# Altium schematic symbol library AstroPix.SchLib: 5 symbols
Pins are listed as number, name and electrical type; pins without a type are passive.

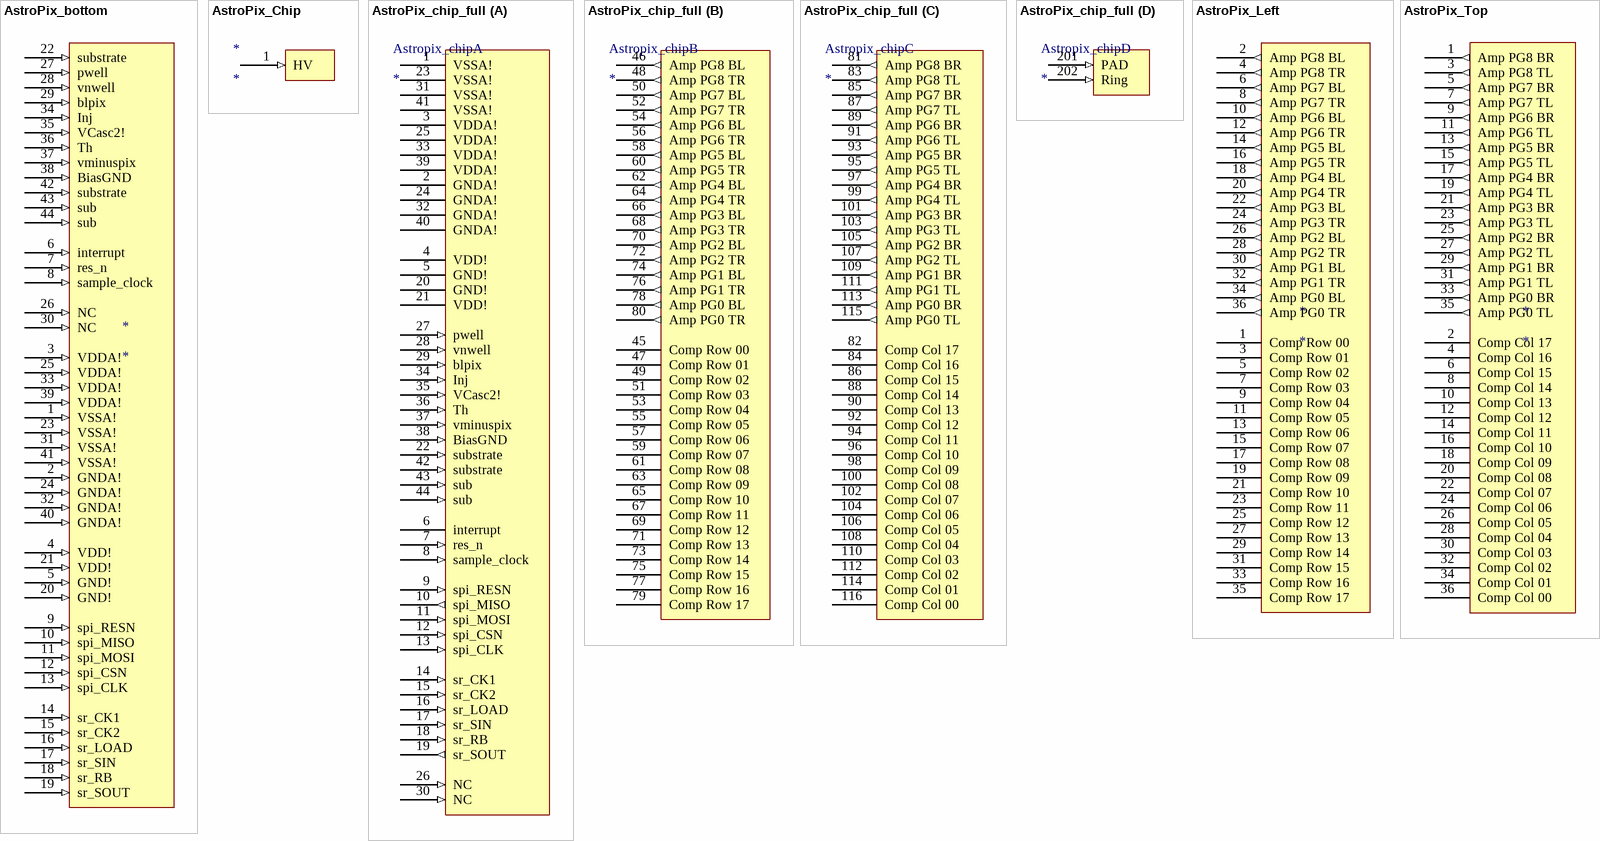
[diagram p0: symbols AstroPix_bottom to AstroPix_Top]

## AstroPix_bottom
designator *
footprint 44Pin_100u_Bond_BOTTOM
pins: 1 VSSA! (in), 2 GNDA! (in), 3 VDDA! (in), 4 VDD! (in), 5 GND! (in), 6 interrupt (in), 7 res_n (in), 8 sample_clock (in), 9 spi_RESN (in), 10 spi_MISO (in), 11 spi_MOSI (in), 12 spi_CSN (in), 13 spi_CLK (in), 14 sr_CK1 (in), 15 sr_CK2 (in), 16 sr_LOAD (in), 17 sr_SIN (in), 18 sr_RB (in), 19 sr_SOUT (in), 20 GND! (in), 21 VDD! (in), 22 substrate (in), 23 VSSA! (in), 24 GNDA! (in), 25 VDDA! (in), 26 NC (in), 27 pwell (in), 28 vnwell (in), 29 blpix (in), 30 NC (in), 31 VSSA! (in), 32 GNDA! (in), 33 VDDA! (in), 34 Inj (in), 35 VCasc2! (in), 36 Th (in), 37 vminuspix (in), 38 BiasGND (in), 39 VDDA! (in), 40 GNDA! (in), 41 VSSA! (in), 42 substrate (in), 43 sub (in), 44 sub (in)

## AstroPix_Chip
designator *
footprint Astropix_Chip
pins: 1 HV (in)

## AstroPix_chip_full
designator Astropix_chip
footprint Astropix_Chip_w_bondpads_1mm_distance_125u _final
footprint Astropix_Chip_w_bondpads_1mm_distance_125u_bondplan
part A pins: 1 VSSA! (power), 2 GNDA! (power), 3 VDDA! (power), 4 VDD! (power), 5 GND! (power), 6 interrupt (oc), 7 res_n (in), 8 sample_clock (in), 9 spi_RESN (in), 10 spi_MISO (out), 11 spi_MOSI (in), 12 spi_CSN (in), 13 spi_CLK (in), 14 sr_CK1 (in), 15 sr_CK2 (in), 16 sr_LOAD (in), 17 sr_SIN (in), 18 sr_RB (in), 19 sr_SOUT (out), 20 GND! (power), 21 VDD! (power), 22 substrate (in), 23 VSSA! (power), 24 GNDA! (power), 25 VDDA! (power), 26 NC (in), 27 pwell (in), 28 vnwell (in), 29 blpix (in), 30 NC (in), 31 VSSA! (power), 32 GNDA! (power), 33 VDDA! (power), 34 Inj (in), 35 VCasc2! (in), 36 Th (in), 37 vminuspix (in), 38 BiasGND (in), 39 VDDA! (power), 40 GNDA! (power), 41 VSSA! (power), 42 substrate (in), 43 sub (in), 44 sub (in)
part B pins: 45 Comp Row 00 (oc), 46 Amp PG8 BL (out), 47 Comp Row 01 (oc), 48 Amp PG8 TR (out), 49 Comp Row 02 (oc), 50 Amp PG7 BL (out), 51 Comp Row 03 (oc), 52 Amp PG7 TR (out), 53 Comp Row 04 (oc), 54 Amp PG6 BL (out), 55 Comp Row 05 (oc), 56 Amp PG6 TR (out), 57 Comp Row 06 (oc), 58 Amp PG5 BL (out), 59 Comp Row 07 (oc), 60 Amp PG5 TR (out), 61 Comp Row 08 (oc), 62 Amp PG4 BL (out), 63 Comp Row 09 (oc), 64 Amp PG4 TR (out), 65 Comp Row 10 (oc), 66 Amp PG3 BL (out), 67 Comp Row 11 (oc), 68 Amp PG3 TR (out), 69 Comp Row 12 (oc), 70 Amp PG2 BL (out), 71 Comp Row 13 (oc), 72 Amp PG2 TR (out), 73 Comp Row 14 (oc), 74 Amp PG1 BL (out), 75 Comp Row 15 (oc), 76 Amp PG1 TR (out), 77 Comp Row 16 (oc), 78 Amp PG0 BL (out), 79 Comp Row 17 (oc), 80 Amp PG0 TR (out)
part C pins: 81 Amp PG8 BR (out), 82 Comp Col 17 (oc), 83 Amp PG8 TL (out), 84 Comp Col 16 (oc), 85 Amp PG7 BR (out), 86 Comp Col 15 (oc), 87 Amp PG7 TL (out), 88 Comp Col 14 (oc), 89 Amp PG6 BR (out), 90 Comp Col 13 (oc), 91 Amp PG6 TL (out), 92 Comp Col 12 (oc), 93 Amp PG5 BR (out), 94 Comp Col 11 (oc), 95 Amp PG5 TL (out), 96 Comp Col 10 (oc), 97 Amp PG4 BR (out), 98 Comp Col 09 (oc), 99 Amp PG4 TL (out), 100 Comp Col 08 (oc), 101 Amp PG3 BR (out), 102 Comp Col 07 (oc), 103 Amp PG3 TL (out), 104 Comp Col 06 (oc), 105 Amp PG2 BR (out), 106 Comp Col 05 (oc), 107 Amp PG2 TL (out), 108 Comp Col 04 (oc), 109 Amp PG1 BR (out), 110 Comp Col 03 (oc), 111 Amp PG1 TL (out), 112 Comp Col 02 (oc), 113 Amp PG0 BR (out), 114 Comp Col 01 (oc), 115 Amp PG0 TL (out), 116 Comp Col 00 (oc)
part D pins: 201 PAD (in), 202 Ring (in)
1 alternate drawing of the same symbol

## AstroPix_Left
designator *
footprint 36PIN_100U_BOND_Left
pins: 1 Comp Row 00 (oc), 2 Amp PG8 BL (out), 3 Comp Row 01 (oc), 4 Amp PG8 TR (out), 5 Comp Row 02 (oc), 6 Amp PG7 BL (out), 7 Comp Row 03 (oc), 8 Amp PG7 TR (out), 9 Comp Row 04 (oc), 10 Amp PG6 BL (out), 11 Comp Row 05 (oc), 12 Amp PG6 TR (out), 13 Comp Row 06 (oc), 14 Amp PG5 BL (out), 15 Comp Row 07 (oc), 16 Amp PG5 TR (out), 17 Comp Row 08 (oc), 18 Amp PG4 BL (out), 19 Comp Row 09 (oc), 20 Amp PG4 TR (out), 21 Comp Row 10 (oc), 22 Amp PG3 BL (out), 23 Comp Row 11 (oc), 24 Amp PG3 TR (out), 25 Comp Row 12 (oc), 26 Amp PG2 BL (out), 27 Comp Row 13 (oc), 28 Amp PG2 TR (out), 29 Comp Row 14 (oc), 30 Amp PG1 BL (out), 31 Comp Row 15 (oc), 32 Amp PG1 TR (out), 33 Comp Row 16 (oc), 34 Amp PG0 BL (out), 35 Comp Row 17 (oc), 36 Amp PG0 TR (out)

## AstroPix_Top
designator *
footprint 36PIN_100U_BOND_TOP
pins: 1 Amp PG8 BR (out), 2 Comp Col 17 (oc), 3 Amp PG8 TL (out), 4 Comp Col 16 (oc), 5 Amp PG7 BR (out), 6 Comp Col 15 (oc), 7 Amp PG7 TL (out), 8 Comp Col 14 (oc), 9 Amp PG6 BR (out), 10 Comp Col 13 (oc), 11 Amp PG6 TL (out), 12 Comp Col 12 (oc), 13 Amp PG5 BR (out), 14 Comp Col 11 (oc), 15 Amp PG5 TL (out), 16 Comp Col 10 (oc), 17 Amp PG4 BR (out), 18 Comp Col 09 (oc), 19 Amp PG4 TL (out), 20 Comp Col 08 (oc), 21 Amp PG3 BR (out), 22 Comp Col 07 (oc), 23 Amp PG3 TL (out), 24 Comp Col 06 (oc), 25 Amp PG2 BR (out), 26 Comp Col 05 (oc), 27 Amp PG2 TL (out), 28 Comp Col 04 (oc), 29 Amp PG1 BR (out), 30 Comp Col 03 (oc), 31 Amp PG1 TL (out), 32 Comp Col 02 (oc), 33 Amp PG0 BR (out), 34 Comp Col 01 (oc), 35 Amp PG0 TL (out), 36 Comp Col 00 (oc)